# Altium footprint library Pcb Lib.PcbLib: 10 footprints
Each footprint in its own frame and in the unit in brackets; x right, y up, seen from the top. Pads: shape width x height; smd on the part's side, far side on the other; paste and mask are expansions set on the pad; w line width, h text height; cw(c..) or ccw(c..) is an arc to the next point about the centre after c.
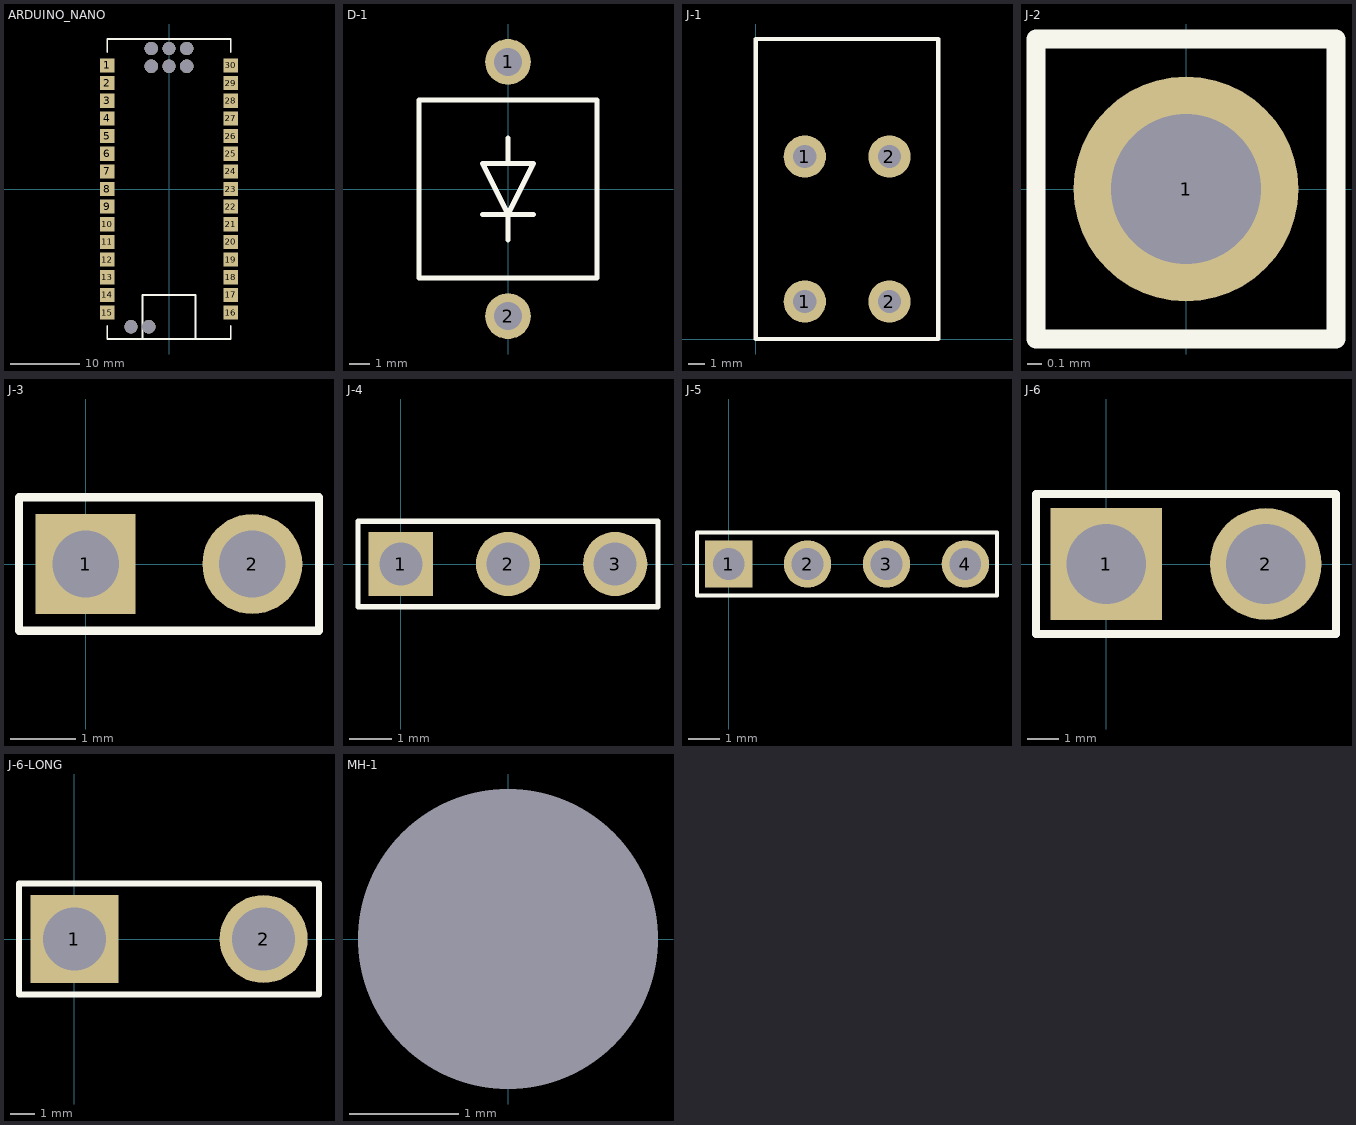
[diagram p0: the footprints below, top view; thin cyan lines are the x and y axes]

## ARDUINO_NANO [mil] "Casselated pads for the Arduino Nano Every"
pads (30):
  rect 80x80 smd: 1(-350,700) 2(-350,600) 3(-350,500) 4(-350,400) 5(-350,300) 6(-350,200) 7(-350,100) 8(-350,0) 9(-350,-100) 10(-350,-200) 11(-350,-300) 12(-350,-400) 13(-350,-500) 14(-350,-600) 15(-350,-700) 16(350,-700) 17(350,-600) 18(350,-500) 19(350,-400) 20(350,-300) 21(350,-200) 22(350,-100) 23(350,0) 24(350,100) 25(350,200) 26(350,300) 27(350,400) 28(350,500) 29(350,600) 30(350,700)
via 100,796 diameter 75 hole 75
via 100,696 diameter 75 hole 75
via 0,796 diameter 75 hole 75
via 0,696 diameter 75 hole 75
via -100,796 diameter 75 hole 75
via -100,696 diameter 75 hole 75
via -215,-780 diameter 75 hole 75
via -115,-780 diameter 75 hole 75
Top Overlay:
  lines w10: -350,-775 -350,-850 350,-850 350,-775 ; -350,775 -350,850 350,850 350,775 ; -150,-850 -150,-600 150,-600 150,-850
3D body "NANOEveryV3.0.step": height 142.48, standoff 0, extent -350,-893.71 350,850

## D-1 [mil]
pads (2):
  round 90 hole 55: 1(0,250) 2(0,-250)
Top Overlay:
  lines w10: -50,-50 50,-50 ; 0,-100 0,-50 ; 0,50 0,100 ; 0,-50 -50,50 50,50 0,-50 ; -175,-175 175,-175 175,175 -175,175 -175,-175
3D body "Diode 5KP60A.STEP": height 375, standoff -80, extent -175,-275 175,275

## J-1 [mm] "Screwless terminal 2 pin 32A"
height 19
pads (4):
  round 2.54 hole 1.4: 1(2.94,2.25) 1(2.94,10.95) 2(8.02,2.25) 2(8.02,10.95)
Top Overlay:
  lines w0.254: 0,0 10.947,0 10.947,18.009 0,18.009 0,0
3D body "Connector 277-17514-ND.STEP": height 19, standoff -3.5, extent 0,0 10.96,18

## J-2 [mil] "1 pin Thru-Hole AWG 24"
pads (1):
  round 60 hole 40: 1(0,0)
Top Overlay:
  lines w5: -40,-40 40,-40 40,40 -40,40 -40,-40
3D body "Header 1-Long.STEP": height 350, standoff -125, extent -50,-50 50,50

## J-3 [mil] "2 pin Thru-Hole AWG 24"
pads (2):
  rect 60x60 hole 40: 1(0,0)
  round 60 hole 40: 2(100,0)
Top Overlay:
  lines w5: -40,-40 140,-40 140,40 -40,40 -40,-40
3D body "Header 2-Long.STEP": height 350, standoff -125, extent -50,-50 150,50

## J-4 [mil] "3 pin Thru-Hole AWG 24"
pads (3):
  rect 60x60 hole 40: 1(0,0)
  round 60 hole 40: 2(100,0) 3(200,0)
Top Overlay:
  lines w5: -40,-40 240,-40 240,40 -40,40 -40,-40
3D body "Header 3-Long.STEP": height 350, standoff -125, extent -50,-50 250,50

## J-5 [mil] "4 pin Thru-Hole AWG 24"
pads (4):
  rect 60x60 hole 40: 1(0,0)
  round 60 hole 40: 2(100,0) 3(200,0) 4(300,0)
Top Overlay:
  lines w5: -40,-40 340,-40 340,40 -40,40 -40,-40
3D body "Header 4-Long.STEP": height 350, standoff -125, extent -50,-50 350,50

## J-6 [mil] "2 pin Thru-Hole AWG 16"
pads (2):
  rect 140x140 hole 100: 1(0,0)
  round 140 hole 100: 2(200,0)
Top Overlay:
  lines w10: -88,-88 288,-88 288,88 -88,88 -88,-88

## J-6-LONG [mil] "2 pin Thru-Hole AWG 16 Larger Spacing"
pads (2):
  rect 140x140 hole 100: 1(0,0)
  round 140 hole 100: 2(300,0)
Top Overlay:
  lines w10: -88,-88 388,-88 388,88 -88,88 -88,-88

## MH-1 [mm] "Mounting Hole M2.5"
pads (1):
  round 0 hole 2.75: 1(0,0)